# EAGLE library part 6120XX21721_61206021721 (library 61201021621_Eagle_WR-BHD_rev19b)
WR-BHD 2.54 mm Male Angled Box Header KIND PROPERTIES: Pitch 2.54 mm Gender:Male MATERIAL PROPERTIES: Insulator Material:PBT Insulator Flammability Rating UL94 V-0 Insulator Color:Black Contact Material :Copper Alloy Contact Plating :Gold Contact Type: Stamped GENERAL INFORMATION: Operating Temperature:-40 °C up to +125 °C Compliance:RoHS Working Voltage: 250 V (AC) Withstanding Voltage:500 V (AC) Contact Resistance: 20 mΩ Insulation Resistance:1000 MΩ CERTIFICATION: UL Approval:E323964 PACKAGING PROPERTIES Packaging :Tray <https://katalog.we-online.com/media/images/v2/o32888v209%20Family_WR-BHD_6120xx21721.jpg> Details see: https://katalog.we-online.com/en/em/BHD_2_54_MALE_ANGLED_BOX_HEADER_6120XX21721 Updated by Yingchun,Shan 2019-10-29 2019 (C) Würth Elektronik
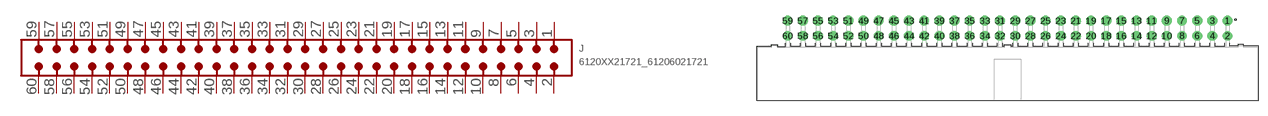
[diagram p3: symbol with the pads of 61206021721; footprint 61206021721]

Designator prefix J

## 6120XX21721_61206021721 (CONTACT-RESISTANCE: 20mOhm; DATASHEET-URL: https://katalog.we-online.com/em/datasheet/61206021721.pdf; GENDER: Male; IR: 3A; L: 83.86mm; MATES: WR-BHD 2.54mm Female IDC Connector with Strain Relief; MOUNT: THT; PACKAGING: Tray; PART-NUMBER: 61206021721; PINS: 60; PITCH: 2.54mm; TOL-R: max.; TYPE: Straight; WORKING-VOLTAGE: 250V(AC))  [61206021721]
1  1  pas
2  2  pas
3  3  pas
4  4  pas
5  5  pas
6  6  pas
7  7  pas
8  8  pas
9  9  pas
10  10  pas
11  11  pas
12  12  pas
13  13  pas
14  14  pas
15  15  pas
16  16  pas
17  17  pas
18  18  pas
19  19  pas
20  20  pas
21  21  pas
22  22  pas
23  23  pas
24  24  pas
25  25  pas
26  26  pas
27  27  pas
28  28  pas
29  29  pas
30  30  pas
31  31  pas
32  32  pas
33  33  pas
34  34  pas
35  35  pas
36  36  pas
37  37  pas
38  38  pas
39  39  pas
40  40  pas
41  41  pas
42  42  pas
43  43  pas
44  44  pas
45  45  pas
46  46  pas
47  47  pas
48  48  pas
49  49  pas
50  50  pas
51  51  pas
52  52  pas
53  53  pas
54  54  pas
55  55  pas
56  56  pas
57  57  pas
58  58  pas
59  59  pas
60  60  pas

## Footprint 61206021721 (pad centres in mm)
WR-BHD 2.54 mm Male Angled Box Header, 60 Pins
drill 1.1: 1 36.83,8.805; 2 36.83,6.265; 3 34.29,8.805; 4 34.29,6.265; 5 31.75,8.805; 6 31.75,6.265; 7 29.21,8.805; 8 29.21,6.265; 9 26.67,8.805; 10 26.67,6.265; 11 24.13,8.805; 12 24.13,6.265; 13 21.59,8.805; 14 21.59,6.265; 15 19.05,8.805; 16 19.05,6.265; 17 16.51,8.805; 18 16.51,6.265; 19 13.97,8.805; 20 13.97,6.265; 21 11.43,8.805; 22 11.43,6.265; 23 8.89,8.805; 24 8.89,6.265; 25 6.35,8.805; 26 6.35,6.265; 27 3.81,8.805; 28 3.81,6.265; 29 1.27,8.805; 30 1.27,6.265; 31 -1.27,8.805; 32 -1.27,6.265; 33 -3.81,8.805; 34 -3.81,6.265; 35 -6.35,8.805; 36 -6.35,6.265; 37 -8.89,8.805; 38 -8.89,6.265; 39 -11.43,8.805; 40 -11.43,6.265; 41 -13.97,8.805; 42 -13.97,6.265; 43 -16.51,8.805; 44 -16.51,6.265; 45 -19.05,8.805; 46 -19.05,6.265; 47 -21.59,8.805; 48 -21.59,6.265; 49 -24.13,8.805; 50 -24.13,6.265; 51 -26.67,8.805; 52 -26.67,6.265; 53 -29.21,8.805; 54 -29.21,6.265; 55 -31.75,8.805; 56 -31.75,6.265; 57 -34.29,8.805; 58 -34.29,6.265; 59 -36.83,8.805; 60 -36.83,6.265